# Altium footprint library Inductors.PcbLib: 2 footprints
Each footprint in its own frame and in the unit in brackets; x right, y up, seen from the top. Pads: shape width x height; smd on the part's side, far side on the other; paste and mask are expansions set on the pad; w line width, h text height; cw(c..) or ccw(c..) is an arc to the next point about the centre after c.
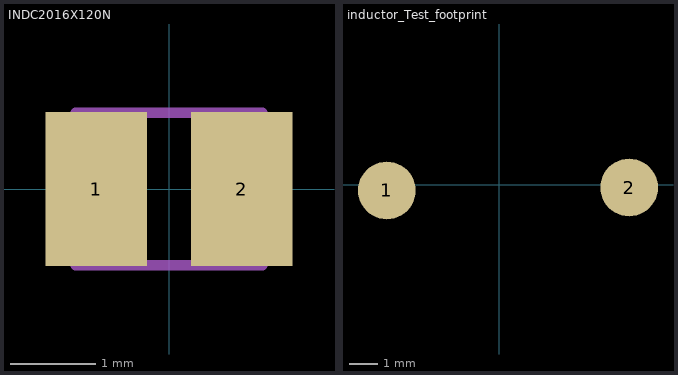
[diagram p0: the footprints below, top view; thin cyan lines are the x and y axes]

## INDC2016X120N [mm]
pads (2):
  rect 1.2x1.82 smd: 1(-0.86,0) 2(0.86,0)
Mechanical 13:
  lines w0.127: -1.1,-0.9 -1.1,0.9 1.1,0.9 1.1,-0.9 -1.1,-0.9
3D body "2016(0805)_inductor.STEP": height 1.2, standoff 0, extent -1,-0.8 1,0.8

## inductor_Test_footprint [mm]
pads (2):
  round 2 smd: 1(-3.9,-0.2) 2(4.5,-0.1)